# Altium schematic symbol library LTC6957IDD-3.SchLib: 1 symbol
Pins are listed as number, name and electrical type; pins without a type are passive.

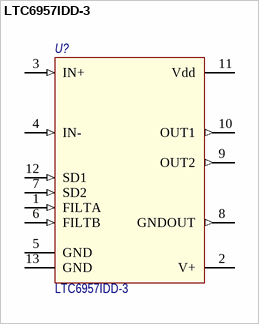
[diagram p0: symbol LTC6957IDD-3]

## LTC6957IDD-3
designator U?
Low Phase Noise, Dual Output Buffer/Driver/Logic Converter; Назначение: Dual output clock buffer; Потребление, Вт: 0.1; Supplier 1: Arrow Electronics; Supplier Part Number 1: LTC6957IDD-3#PBF; ComponentLink1Description: DataSheet; ComponentLink1URL: https://www.analog.com/media/en/technical-documentation/data-sheets/6957fb.pdf; Наименование: LTC6957IDD-3
footprint DFN-12_EP_3x3_0.45 (12-Pin DFN with Exposed Pad 3x3mm 0.45mm Pitch)
pins: 1 FILTA (in), 2 V+ (power), 3 IN+ (in), 4 IN- (in), 5 GND (power), 6 FILTB (in), 7 SD2 (in), 8 GNDOUT (out), 9 OUT2 (out), 10 OUT1 (out), 11 Vdd (power), 12 SD1 (in), 13 GND (power)